# Altium footprint library TIP147.PcbLib: 1 footprints
Each footprint in its own frame and in the unit in brackets; x right, y up, seen from the top. Pads: shape width x height; smd on the part's side, far side on the other; paste and mask are expansions set on the pad; w line width, h text height; cw(c..) or ccw(c..) is an arc to the next point about the centre after c.
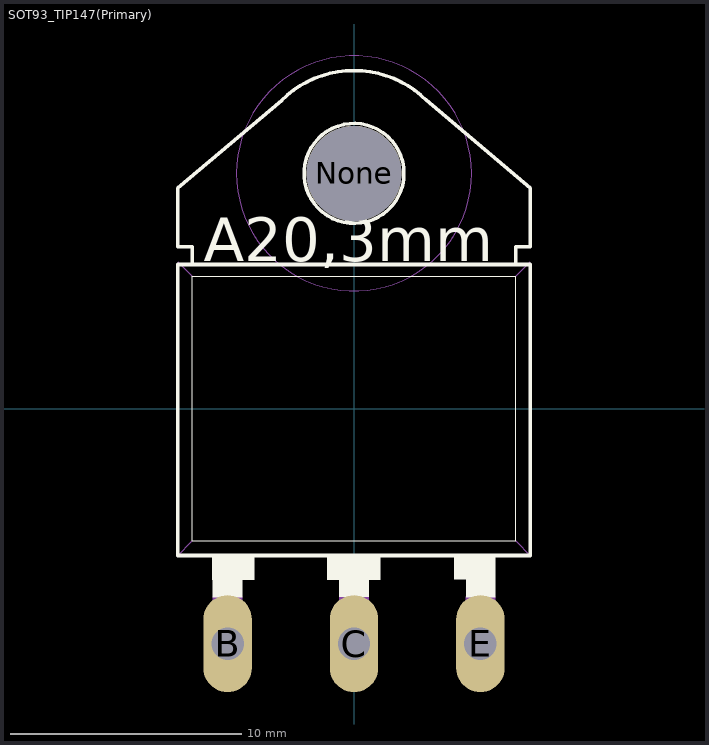
[diagram p0: the footprint, top view; thin cyan lines are the x and y axes]

## SOT93_TIP147(Primary) [mil]
pads (4):
  oval 82.5x165 hole 55: B(-215,-400) C(0,-400) E(215,-400)
  round 162 hole 162 unplated: None(0,400)
Top Overlay:
  circle w6: c0,400 r85
  region: 190.53,-250 240,-250 240,-320.89 190.53,-320.89
  region: -25.03,-250 25,-250 25,-320.38 -25.03,-320.38
  region: -240.49,-250 -190,-250 -190,-320.65 -240.49,-320.65
  region: -45.14,-250 45,-250 45,-290.87 -45.14,-290.87
  region: 170.31,-250 240,-250 240,-290.53 170.31,-290.53
  region: -240.81,-250 -170,-250 -170,-290.98 -240.81,-290.98
  lines w2: -275,-225 -275,225 275,225 275,-225 -275,-225
  lines w6: -123.74,523.74 cw(c0,400) 0,575 cw(c0,400) 123.74,523.74 ; -123,524 -300,375 -300,275 -275,275 -275,245 ; 123,525 300,375 300,275 275,275 275,245 ; -275,245 275,245 ; -275,245 -300,245 -300,-250 300,-250 300,245 275,245
  text "A20,3mm" at -255.35,250.51 h73.82
Mechanical 1:
  circle w0: c0,400 r200
  circle w0: c0,400 r200
  region: 190.17,-320 240,-320 240,-405.36 190.17,-405.36
  region: -25.07,-320 25,-320 25,-406.13 -25.07,-406.13
  region: -240.62,-320 -190,-320 -190,-406.05 -240.62,-406.05
  lines w2: -300,-250 -275,-225 ; -300,250 -275,225 ; 275,-225 300,-250 ; 275,225 300,250